# EAGLE library part AJAX (library F030NG)
FDD Driver Atari AJAX, WD1773-PH or compatible
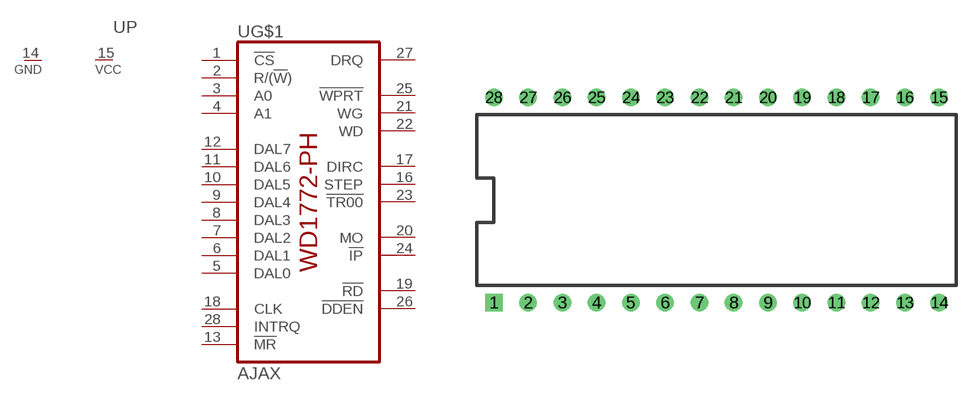
[diagram p29: symbol with the pads of DIL28; footprint DIL28]

Designator prefix U; gates G$1=AJAX P=1VCC_1GND

## AJAX  [DIL28]
1  G$1:!CS  in
2  G$1:R/(!W!)  in
3  G$1:A0  in
4  G$1:A1  in
5  G$1:DAL0
6  G$1:DAL1
7  G$1:DAL2
8  G$1:DAL3
9  G$1:DAL4
10  G$1:DAL5
11  G$1:DAL6
12  G$1:DAL7
13  G$1:!MR  in
14  P:GND  pwr
15  P:VCC  pwr
16  G$1:STEP  out
17  G$1:DIRC  out
18  G$1:CLK  in
19  G$1:!RD  in
20  G$1:MO  out
21  G$1:WG  out
22  G$1:WD  out
23  G$1:!TR00  in
24  G$1:!IP  in
25  G$1:!WPRT  in
26  G$1:!DDEN  in
27  G$1:DRQ  out
28  G$1:INTRQ  out

## Footprint DIL28 (pad centres in mm)
Dual In Line Package 0.6 inch
drill 0.8 square: 1 -16.51,-7.62
drill 0.8: 2 -13.97,-7.62; 3 -11.43,-7.62; 4 -8.89,-7.62; 5 -6.35,-7.62; 6 -3.81,-7.62; 7 -1.27,-7.62; 8 1.27,-7.62; 9 3.81,-7.62; 10 6.35,-7.62; 11 8.89,-7.62; 12 11.43,-7.62; 13 13.97,-7.62; 14 16.51,-7.62; 15 16.51,7.62; 16 13.97,7.62; 17 11.43,7.62; 18 8.89,7.62; 19 6.35,7.62; 20 3.81,7.62; 21 1.27,7.62; 22 -1.27,7.62; 23 -3.81,7.62; 24 -6.35,7.62; 25 -8.89,7.62; 26 -11.43,7.62; 27 -13.97,7.62; 28 -16.51,7.62